# Altium schematic symbol library Capacitors.SchLib: 7 symbols
Pins are listed as number, name and electrical type; pins without a type are passive.

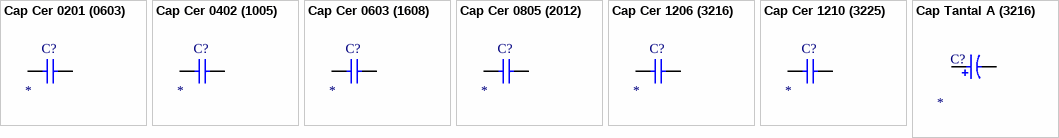
[diagram p0: symbols Cap Cer 0201 (0603) to Cap Tantal A (3216)]

## Cap Cer 0201 (0603)
designator C?
SMD Capacitor Ceramic; Case-EIA: 0201; Case-Metric: 0603; Technology: SMT; Type: Ceramic; Value: *
footprint CAP 0201 (0603) M (Chip Capacitor, Body 0.6x0.3mm, Height 0.33mm, IPC Low Density)
footprint CAP 0201 (0603) L (Chip Capacitor, Body 0.6x0.3mm, Height 0.33mm, IPC High Density)
footprint CAP 0201 (0603) N (Chip Capacitor, Body 0.6x0.3mm, Height 0.33mm, IPC Medium Density)
pins: 1, 2
1 alternate drawing of the same symbol

## Cap Cer 0402 (1005)
designator C?
SMD Capacitor Ceramic; Case-EIA: 0402; Case-Metric: 1005; Technology: SMT; Type: Ceramic; Value: *
footprint CAP 0402 (1005) M (Chip Capacitor, Body 1.0x0.5mm, Height 0.6mm, IPC Low Density)
footprint CAP 0402 (1005) N (Chip Capacitor, Body 1.0x0.5mm, Height 0.6mm, IPC Medium Density)
footprint CAP 0402 (1005) L (Chip Capacitor, Body 1.0x0.5mm, Height 0.6mm, IPC High Density)
pins: 1, 2
1 alternate drawing of the same symbol

## Cap Cer 0603 (1608)
designator C?
SMD Capacitor Ceramic; Case-EIA: 0603; Case-Metric: 1608; Technology: SMT; Type: Ceramic; Value: *
footprint CAP 0603 (1608) L (Chip Capacitor, Body 1.6x0.8mm, Height 1.0mm, IPC High Density)
footprint CAP 0603 (1608) N (Chip Capacitor, Body 1.6x0.8mm, Height 1.0mm, IPC Medium Density)
footprint CAP 0603 (1608) M (Chip Capacitor, Body 1.6x0.8mm, Height 1.0mm, IPC Low Density)
pins: 1, 2
1 alternate drawing of the same symbol

## Cap Cer 0805 (2012)
designator C?
SMD Capacitor Ceramic; Case-EIA: 0805; Case-Metric: 2012; Technology: SMT; Type: Ceramic; Value: *
footprint CAP 0805 (2012) M (Chip Capacitor, Body 2.0x1.2mm, Height 0.75mm, IPC Low Density)
footprint CAP 0805 (2012) N (Chip Capacitor, Body 2.0x1.2mm, Height 0.75mm, IPC Medium Density)
footprint CAP 0805 (2012) L (Chip Capacitor, Body 2.0x1.2mm, Height 0.75mm, IPC High Density)
pins: 1, 2
1 alternate drawing of the same symbol

## Cap Cer 1206 (3216)
designator C?
SMD Capacitor Ceramic; Case-EIA: 1206; Case-Metric: 3216; Technology: SMT; Type: Ceramic; Value: *
footprint CAP 1206 (3216) L (Chip Capacitor, Body 3.2x1.6mm, Height 1.7mm, IPC High Density)
footprint CAP 1206 (3216) N (Chip Capacitor, Body 3.2x1.6mm, Height 1.7mm, IPC Medium Density)
footprint CAP 1206 (3216) M (Chip Capacitor, Body 3.2x1.6mm, Height 1.7mm, IPC Low Density)
pins: 1, 2
1 alternate drawing of the same symbol

## Cap Cer 1210 (3225)
designator C?
SMD Capacitor Ceramic; Case-EIA: 1210; Case-Metric: 3225; Technology: SMT; Type: Ceramic; Value: *
footprint CAP 1210 (3225) N (Chip Capacitor, Body 3.2x2.5mm, Height 1.05mm, IPC Medium Density)
footprint CAP 1210 (3225) L (Chip Capacitor, Body 3.2x2.5mm, Height 1.05mm, IPC High Density)
footprint CAP 1210 (3225) M (Chip Capacitor, Body 3.2x2.5mm, Height 1.05mm, IPC Low Density)
pins: 1, 2
1 alternate drawing of the same symbol

## Cap Tantal A (3216)
designator C?
SMD Capacitor Tantalum; Case-EIA: 1206; Case-Metric: 3216; Technology: Tantalum; Type: Tantalum; Value: *
footprint CAP tantal A (3216) L (Chip Capacitor, Body 3.2x1.6mm, Height 1.7mm, IPC High Density)
footprint CAP tantal A (3216) N (Chip Capacitor, Body 3.2x1.6mm, Height 1.7mm, IPC Medium Density)
footprint CAP tantal A (3216) M (Chip Capacitor, Body 3.2x1.6mm, Height 1.7mm, IPC Low Density)
pins: A, K
1 alternate drawing of the same symbol